# EAGLE library part TLC084PWP (library op-amp)
BiMOS OP-AMP - PowerPAD Package Single Supply
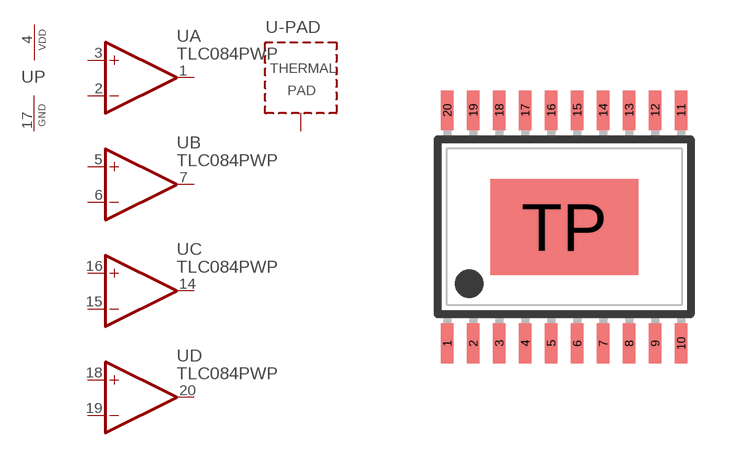
[diagram p14: symbol with the pads of HTSSOP20; footprint HTSSOP20]

Designator prefix U; gates A=OPAMP_NV B=OPAMP_NV C=OPAMP_NV D=OPAMP_NV P=PWRN_VDDGND -PAD=THERMAL-PAD

## TLC084PWP  [HTSSOP20]
1  A:OUT  out
2  A:-IN  in
3  A:+IN  in
4  P:VDD  pwr
5  B:+IN  in
6  B:-IN  in
7  B:OUT  out
14  C:OUT  out
15  C:-IN  in
16  C:+IN  in
17  P:GND  pwr
18  D:+IN  in
19  D:-IN  in
20  D:OUT  out
TP  -PAD:TP  pwr

## Footprint HTSSOP20 (pad centres in mm)
Thin Shrink Small Outline Plastic 20 PWP package, Texas Instruments
smd 0.305 x 0.991: 1 -2.925,-2.918; 2 -2.275,-2.918; 3 -1.625,-2.918; 4 -0.975,-2.918; 5 -0.325,-2.918; 6 0.325,-2.918; 7 0.975,-2.918; 8 1.625,-2.918; 9 2.275,-2.918; 10 2.925,-2.918; 11 2.925,2.918; 12 2.275,2.918; 13 1.625,2.918; 14 0.975,2.918; 15 0.325,2.918; 16 -0.325,2.918; 17 -0.975,2.918; 18 -1.625,2.918; 19 -2.275,2.918; 20 -2.925,2.918
smd 3.7 x 2.4: TP 0,0